# EAGLE library part ADUM1402 (library Radicon)
ADUM1402 4ch (2 in 2 out) digital isolator
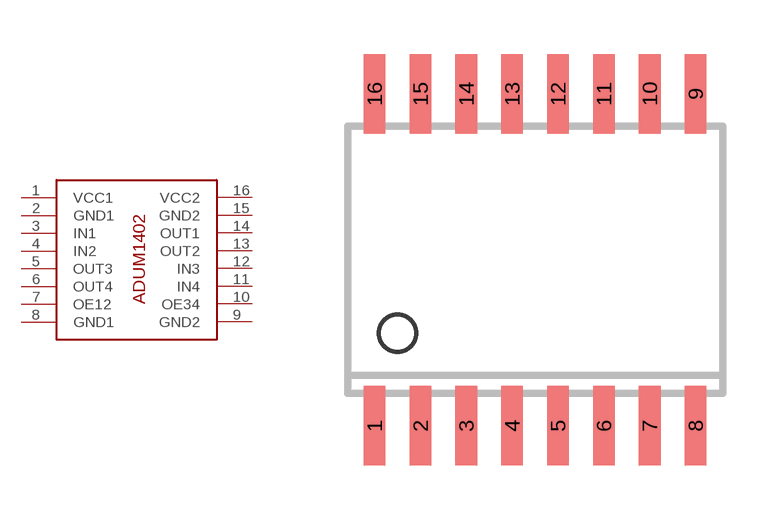
[diagram p1: symbol with the pads of SO16W; footprint SO16W]

Designator prefix IC

## ADUM1402  [SO16W]
1  VCC1  sup
2  GND1  sup
3  IN1  in
4  IN2  in
5  OUT3  out
6  OUT4  out
7  OE12  in
8  GND1  sup
9  GND2  sup
10  OE34  in
11  IN4  in
12  IN3  in
13  OUT2  out
14  OUT1  out
15  GND2  sup
16  VCC2  sup

## Footprint SO16W (pad centres in mm)
SMALL OUTLINE INTEGRATED CIRCUIT wide body 7.5 mm/JEDEC MS-013AA
smd 0.6 x 2.2: 1 -4.445,-4.6; 2 -3.175,-4.6; 3 -1.905,-4.6; 4 -0.635,-4.6; 5 0.635,-4.6; 6 1.905,-4.6; 7 3.175,-4.6; 8 4.445,-4.6; 9 4.445,4.6; 10 3.175,4.6; 11 1.905,4.6; 12 0.635,4.6; 13 -0.635,4.6; 14 -1.905,4.6; 15 -3.175,4.6; 16 -4.445,4.6